# EAGLE library part 6861XX148922_686128148922 (library WR-FPC)
WR-FPC 1.00 mm SMT ZIF Horizontal - Bottom Contact - Hinge Type KIND PROPERTIES Pitch 1 mm MATERIAL PROPERTIES Insulator Material PA6T Contact Material Phosphor Bronze Contact Plating 120 (µ") Tin over 50 (µ") Nickel Contact Type Stamped Solder Tabs Brass <https://www.we-online.com/catalog/media/o58875v209%20Family_Con_FPC_ZIF_100_6861xx148922.jpg> Details see: https://www.we-online.com/catalog/en/FPC_1_00_SMT_ZIF_HORIZONTAL_BOTTOM_CONTACT_HINGE_TYPE_6861XX148922/ Updated by Ella Wu 2020-08-26 2020(C) Wurth Elektronik
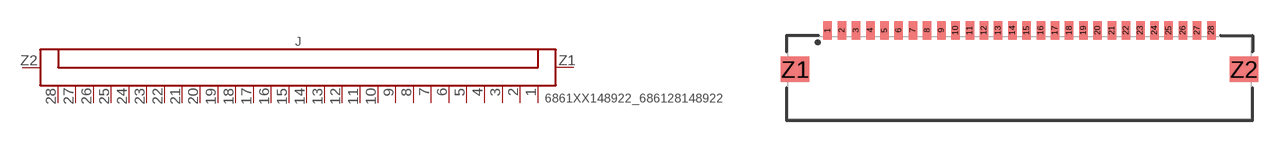
[diagram p208: symbol with the pads of 686128148922; footprint 686128148922]

Designator prefix J

## 6861XX148922_686128148922 (CONTACT-RESISTANCE: 50Ohm; DATASHEET-URL: https://www.we-online.com/catalog/datasheet/686128148922.pdf; IR: 1A; L: 32.6mm; MATE-WITH: WR-FFC 1.00 mm Flat Flexible Cable Type 1 (Contacts on same side)/ Type 2 (Contacts opposite); PACKAGING: Tape and Reel; PART-NUMBER: 686128148922; PINS: 28; PITCH: 1mm; TYPE: Horizontal; VALUE: 686128148922; WORKING-VOLTAGE: 100V(AC))  [686128148922]
1  1  pas
2  2  pas
3  3  pas
4  4  pas
5  5  pas
6  6  pas
7  7  pas
8  8  pas
9  9  pas
10  10  pas
11  11  pas
12  12  pas
13  13  pas
14  14  pas
15  15  pas
16  16  pas
17  17  pas
18  18  pas
19  19  pas
20  20  pas
21  21  pas
22  22  pas
23  23  pas
24  24  pas
25  25  pas
26  26  pas
27  27  pas
28  28  pas
Z1  Z1  pas
Z2  Z2  pas

## Footprint 686128148922 (pad centres in mm)
WR-FPC 1.00 mm SMT ZIF Horizontal - Bottom Contact - Hinge Type,28Pins
smd 0.6 x 1.3: 1 -13.5,3.35; 2 -12.5,3.35; 3 -11.5,3.35; 4 -10.5,3.35; 5 -9.5,3.35; 6 -8.5,3.35; 7 -7.5,3.35; 8 -6.5,3.35; 9 -5.5,3.35; 10 -4.5,3.35; 11 -3.5,3.35; 12 -2.5,3.35; 13 -1.5,3.35; 14 -0.5,3.35; 15 0.5,3.35; 16 1.5,3.35; 17 2.5,3.35; 18 3.5,3.35; 19 4.5,3.35; 20 5.5,3.35; 21 6.5,3.35; 22 7.5,3.35; 23 8.5,3.35; 24 9.5,3.35; 25 10.5,3.35; 26 11.5,3.35; 27 12.5,3.35; 28 13.5,3.35
smd 2 x 1.8: Z1 -15.8,0.6; Z2 15.8,0.6